# Altium schematic symbol library digital.SchLib: 2 symbols
Pins are listed as number, name and electrical type; pins without a type are passive.

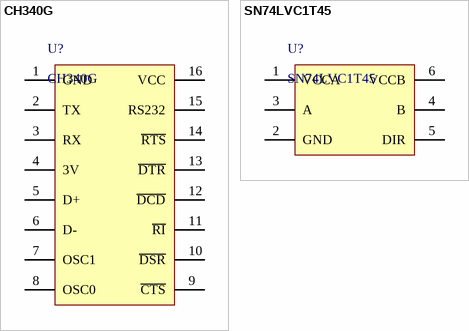
[diagram p0: symbols CH340G to SN74LVC1T45]

## CH340G
designator U?
USB to UART converter
footprint SO16_1.27
pins: 1 GND, 2 TX, 3 RX, 4 3V, 5 D+, 6 D-, 7 OSC1, 8 OSC0, 9 ~{CTS}, 10 ~{DSR}, 11 ~{RI}, 12 ~{DCD}, 13 ~{DTR}, 14 ~{RTS}, 15 RS232, 16 VCC

## SN74LVC1T45
designator U?
CMOS-TTL converter
footprint SOT23-6
pins: 1 VCCA, 2 GND, 3 A, 4 B, 5 DIR, 6 VCCB